# EAGLE library part 618009231321 (library Wuerth_Elektronik_eiCan_D-SUB_Connectors)
WR-DSUB 10.3mm Female Angled PCB Connector with Hex Screw, 9 Pins
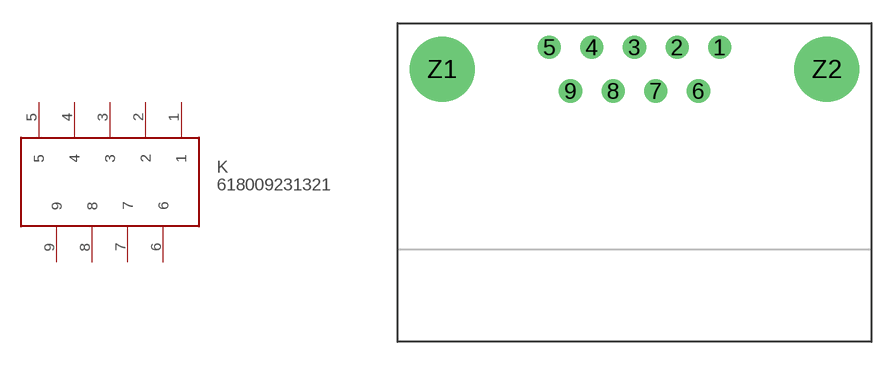
[diagram p36: symbol with the pads of 618009231321; footprint 618009231321]

Designator prefix K

## 618009231321  [618009231321]
1  1
2  2
3  3
4  4
5  5
6  6
7  7
8  8
9  9

## Footprint 618009231321 (pad centres in mm)
WR-DSUB 10.3mm Female Angled PCB Connector with Hex Screw, 9 Pins
drill 1 round: 1 5.54,1.42; 2 2.77,1.42; 3 0,1.42; 4 -2.77,1.42; 5 -5.54,1.42; 6 4.155,-1.42; 7 1.385,-1.42; 8 -1.385,-1.42; 9 -4.155,-1.42
drill 3.2 round: Z1 -12.5,0; Z2 12.5,0